# EAGLE library part LT3042 (library analog_2020)
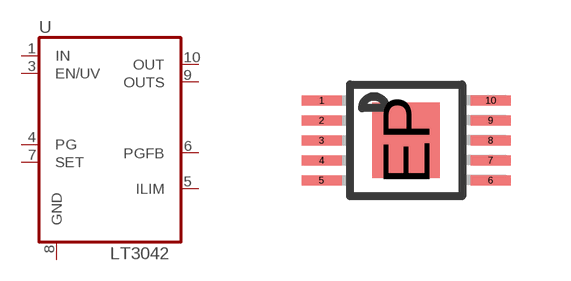
[diagram p4: symbol with the pads of MSOP_10_050_EP; footprint MSOP_10_050_EP]

Designator prefix U

## LT3042  [MSOP_10_050_EP]
1  IN  pwr
2  IN  pwr
3  EN/UV  pwr
4  PG  in
5  ILIM  in
6  PGFB  pas
7  SET  pas
8  GND  pwr
9  OUTS  pwr
10  OUT  out
EP  GND  pwr

## Footprint MSOP_10_050_EP (pad centres in mm)
smd 1 x 0.25: 1 -1.988,1; 2 -1.988,0.5; 3 -1.988,0; 4 -1.988,-0.5; 5 -1.988,-1; 6 2.238,-1; 7 2.238,-0.5; 8 2.238,0; 9 2.238,0.5; 10 2.238,1
smd 1.68 x 1.88: EP 0.125,0